# Altium schematic symbol library SM6T18CA.SchLib: 2 symbols
Pins are listed as number, name and electrical type; pins without a type are passive.

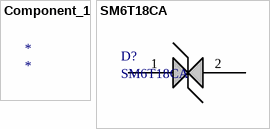
[diagram p0: symbols Component_1 to SM6T18CA]

## Component_1
designator *

## SM6T18CA
designator D?
No Description Available; Manufacturer_Part_Number: LXES1UTAA1-157; Vendor: Toshiba; Built_By: EMA_UL_Team; SourceLibrary: Murata; Copyright: Copyright (C) 2018 Accelerated Designs. All rights reserved; RefDes: RefDes; Type: Type; Value: Value; Link: https://www.digikey.com/product-detail/en/toshiba-semiconductor-and-storage/DF2S5-6CT-L3F/DF2S5-6CTL3FCT-ND/5810250
footprint SMB_STM
pins: 1 CATHODE, 2 ANODE